# Altium footprint library Resistor_THT.PcbLib: 1 footprints
Each footprint in its own frame and in the unit in brackets; x right, y up, seen from the top. Pads: shape width x height; smd on the part's side, far side on the other; paste and mask are expansions set on the pad; w line width, h text height; cw(c..) or ccw(c..) is an arc to the next point about the centre after c.
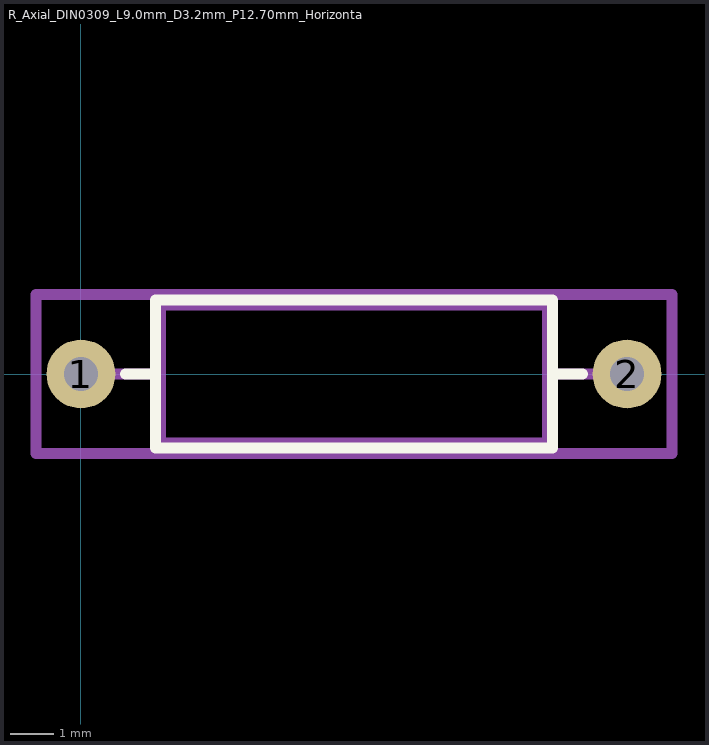
[diagram p0: the footprint, top view; thin cyan lines are the x and y axes]

## R_Axial_DIN0309_L9.0mm_D3.2mm_P12.70mm_Horizontal [mm]
pads (2):
  round 1.6 hole 0.8: 1(0,0)
  rrect100% 1.6x1.6 hole 0.8: 2(12.7,0)
F.SilkS:
  lines w0.254: 1.04,0 1.73,0 ; 10.97,0 11.66,0 ; 1.73,-1.72 1.73,1.72 10.97,1.72 10.97,-1.72 1.73,-1.72
F.Fab:
  lines w0.254: 0,0 1.85,0 ; 10.85,0 12.7,0 ; 1.85,-1.6 1.85,1.6 10.85,1.6 10.85,-1.6 1.85,-1.6
  text "'.Designator'" at 2.303,-0.84 h1
F.CrtYd:
  lines w0.254: -1.05,-1.85 -1.05,1.85 13.75,1.85 13.75,-1.85 -1.05,-1.85